# Altium footprint library DXPpcb.PCBLIB: 575 footprints (part 4 of 36)
Each footprint in its own frame and in the unit in brackets; x right, y up, seen from the top. Pads: shape width x height; smd on the part's side, far side on the other; paste and mask are expansions set on the pad; w line width, h text height; cw(c..) or ccw(c..) is an arc to the next point about the centre after c.
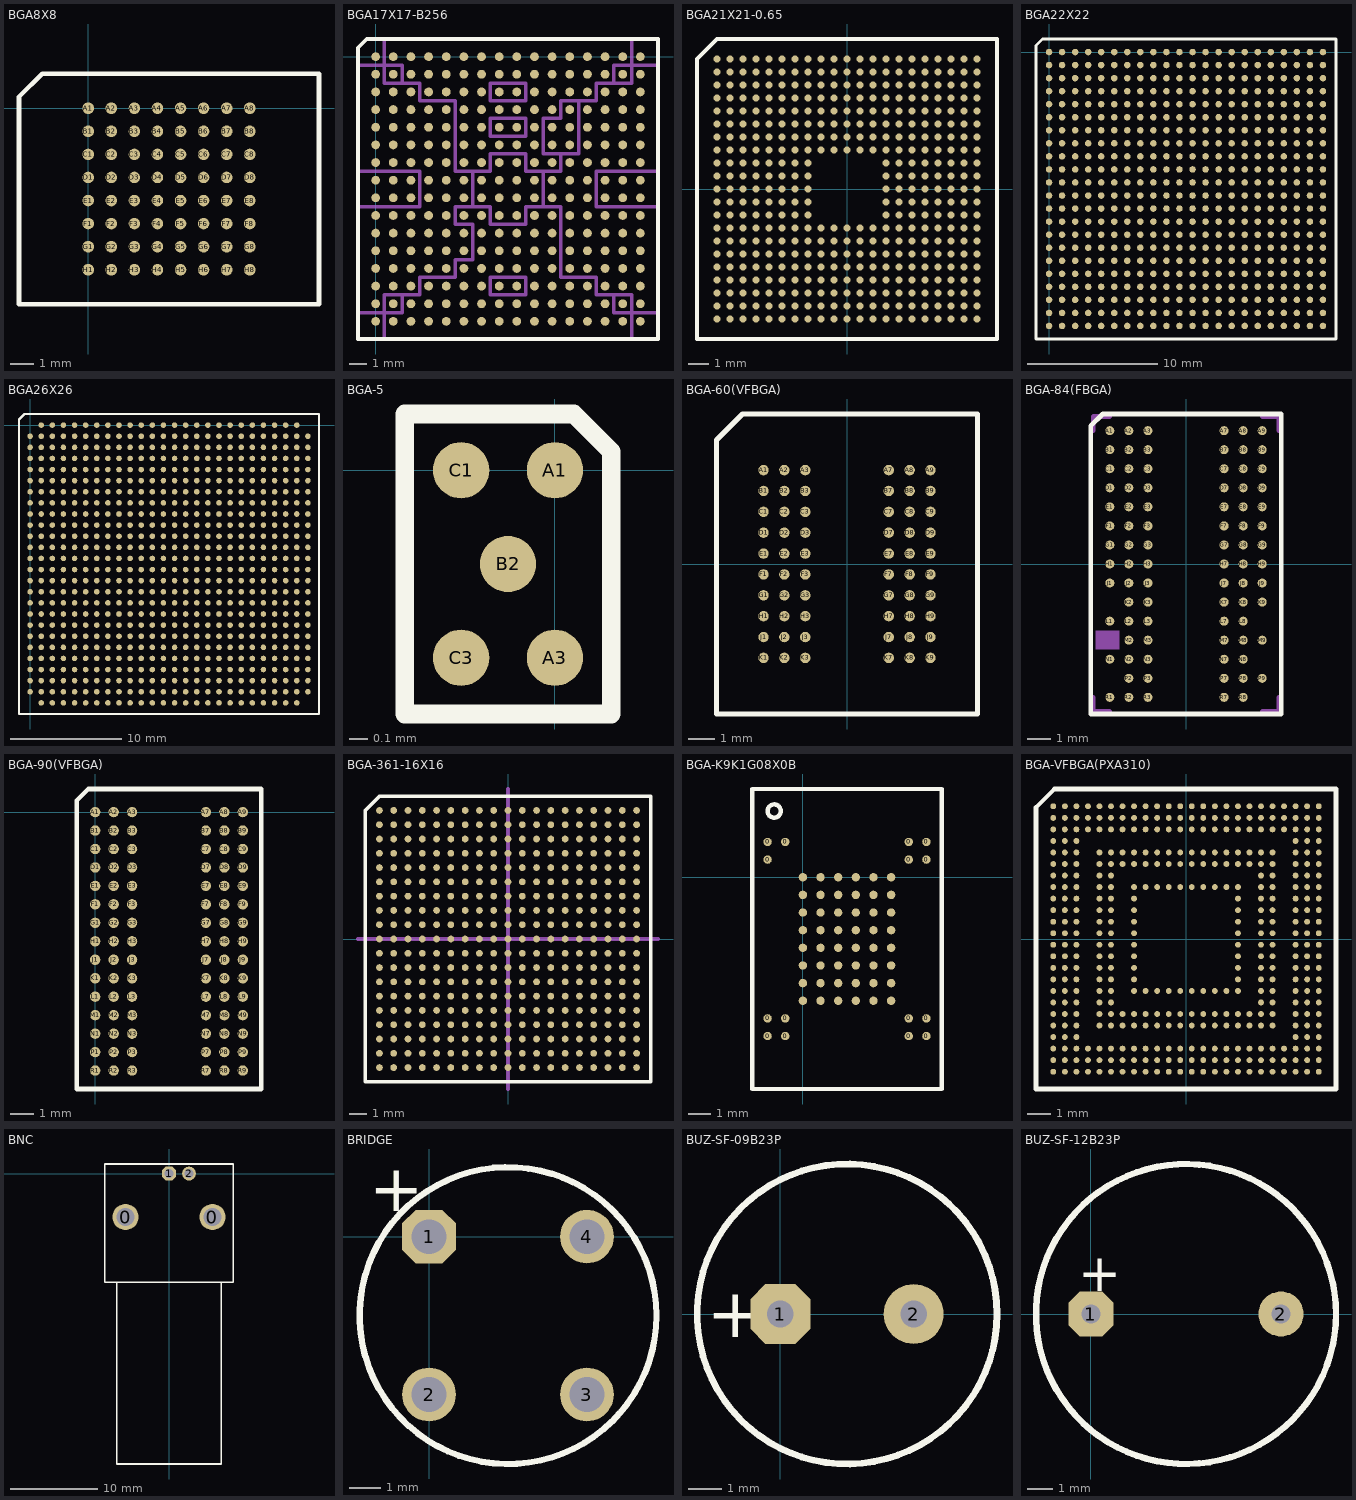
[diagram p3: the footprints below, top view; thin cyan lines are the x and y axes]

## BGA8X8 [mm]
pads (64):
  round 0.5 smd: A1(0,0) A2(1,0) A3(2,0) A4(3,0) A5(4,0) A6(5,0) A7(6,0) A8(7,0) B1(0,-1) B2(1,-1) B3(2,-1) B4(3,-1) B5(4,-1) B6(5,-1) B7(6,-1) B8(7,-1) C1(0,-2) C2(1,-2) C3(2,-2) C4(3,-2) C5(4,-2) C6(5,-2) C7(6,-2) C8(7,-2) D1(0,-3) D2(1,-3) D3(2,-3) D4(3,-3) D5(4,-3) D6(5,-3) D7(6,-3) D8(7,-3) E1(0,-4) E2(1,-4) E3(2,-4) E4(3,-4) E5(4,-4) E6(5,-4) E7(6,-4) E8(7,-4) F1(0,-5) F2(1,-5) F3(2,-5) F4(3,-5) F5(4,-5) F6(5,-5) F7(6,-5) F8(7,-5) G1(0,-6) G2(1,-6) G3(2,-6) G4(3,-6) G5(4,-6) G6(5,-6) G7(6,-6) G8(7,-6) H1(0,-7) H2(1,-7) H3(2,-7) H4(3,-7) H5(4,-7) H6(5,-7) H7(6,-7) H8(7,-7)
TopOverlay:
  lines w0.2: -3,-8.5 10,-8.5 10,1.5 -2,1.5 -3,0.5 -3,-8.5

## BGA17X17-B256 [mm]
pads (256):
  round 0.5 smd: A1(0,0) A2(1,0) A3(2,0) A4(3,0) A5(4,0) A6(5,0) A7(6,0) A8(7,0) A9(8,0) A10(9,0) A11(10,0) A12(11,0) A13(12,0) A14(13,0) A15(14,0) A16(15,0) B1(0,-1) B2(1,-1) B3(2,-1) B4(3,-1) B5(4,-1) B6(5,-1) B7(6,-1) B8(7,-1) B9(8,-1) B10(9,-1) B11(10,-1) B12(11,-1) B13(12,-1) B14(13,-1) B15(14,-1) B16(15,-1) C1(0,-2) C2(1,-2) C3(2,-2) C4(3,-2) C5(4,-2) C6(5,-2) C7(6,-2) C8(7,-2) C9(8,-2) C10(9,-2) C11(10,-2) C12(11,-2) C13(12,-2) C14(13,-2) C15(14,-2) C16(15,-2) D1(0,-3) D2(1,-3) D3(2,-3) D4(3,-3) D5(4,-3) D6(5,-3) D7(6,-3) D8(7,-3) D9(8,-3) D10(9,-3) D11(10,-3) D12(11,-3) D13(12,-3) D14(13,-3) D15(14,-3) D16(15,-3) E1(0,-4) E2(1,-4) E3(2,-4) E4(3,-4) E5(4,-4) E6(5,-4) E7(6,-4) E8(7,-4) E9(8,-4) E10(9,-4) E11(10,-4) E12(11,-4) E13(12,-4) E14(13,-4) E15(14,-4) E16(15,-4) F1(0,-5) F2(1,-5) F3(2,-5) F4(3,-5) F5(4,-5) F6(5,-5) F7(6,-5) F8(7,-5) F9(8,-5) F10(9,-5) F11(10,-5) F12(11,-5) F13(12,-5) F14(13,-5) F15(14,-5) F16(15,-5) G1(0,-6) G2(1,-6) G3(2,-6) G4(3,-6) G5(4,-6) G6(5,-6) G7(6,-6) G8(7,-6) G9(8,-6) G10(9,-6) G11(10,-6) G12(11,-6) G13(12,-6) G14(13,-6) G15(14,-6) G16(15,-6) H1(0,-7) H2(1,-7) H3(2,-7) H4(3,-7) H5(4,-7) H6(5,-7) H7(6,-7) H8(7,-7) H9(8,-7) H10(9,-7) H11(10,-7) H12(11,-7) H13(12,-7) H14(13,-7) H15(14,-7) H16(15,-7) J1(0,-8) J2(1,-8) J3(2,-8) J4(3,-8) J5(4,-8) J6(5,-8) J7(6,-8) J8(7,-8) J9(8,-8) J10(9,-8) J11(10,-8) J12(11,-8) J13(12,-8) J14(13,-8) J15(14,-8) J16(15,-8) K1(0,-9) K2(1,-9) K3(2,-9) K4(3,-9) K5(4,-9) K6(5,-9) K7(6,-9) K8(7,-9) K9(8,-9) K10(9,-9) K11(10,-9) K12(11,-9) K13(12,-9) K14(13,-9) K15(14,-9) K16(15,-9) L1(0,-10) L2(1,-10) L3(2,-10) L4(3,-10) L5(4,-10) L6(5,-10) L7(6,-10) L8(7,-10) L9(8,-10) L10(9,-10) L11(10,-10) L12(11,-10) L13(12,-10) L14(13,-10) L15(14,-10) L16(15,-10) M1(0,-11) M2(1,-11) M3(2,-11) M4(3,-11) M5(4,-11) M6(5,-11) M7(6,-11) M8(7,-11) M9(8,-11) M10(9,-11) M11(10,-11) M12(11,-11) M13(12,-11) M14(13,-11) M15(14,-11) M16(15,-11) N1(0,-12) N2(1,-12) N3(2,-12) N4(3,-12) N5(4,-12) N6(5,-12) N7(6,-12) N8(7,-12) N9(8,-12) N10(9,-12) N11(10,-12) N12(11,-12) N13(12,-12) N14(13,-12) N15(14,-12) N16(15,-12) P1(0,-13) P2(1,-13) P3(2,-13) P4(3,-13) P5(4,-13) P6(5,-13) P7(6,-13) P8(7,-13) P9(8,-13) P10(9,-13) P11(10,-13) P12(11,-13) P13(12,-13) P14(13,-13) P15(14,-13) P16(15,-13) R1(0,-14) R2(1,-14) R3(2,-14) R4(3,-14) R5(4,-14) R6(5,-14) R7(6,-14) R8(7,-14) R9(8,-14) R10(9,-14) R11(10,-14) R12(11,-14) R13(12,-14) R14(13,-14) R15(14,-14) R16(15,-14) T1(0,-15) T2(1,-15) T3(2,-15) T4(3,-15) T5(4,-15) T6(5,-15) T7(6,-15) T8(7,-15) T9(8,-15) T10(9,-15) T11(10,-15) T12(11,-15) T13(12,-15) T14(13,-15) T15(14,-15) T16(15,-15)
TopOverlay:
  lines w0.2: -1,-16 16,-16 16,1 -0.5,1 -1,0.5 -1,-16
Mechanical3:
  lines w0.2: -1,-14.5 0.5,-14.5 ; -1,-0.5 0.5,-0.5 ; 0.5,-16 0.5,-14.5 ; 0.5,1 0.5,-0.5 ; 1.5,-1.5 1.5,-0.5 0.5,-0.5 ; 5.5,-8.5 5.5,-6.5 ; 9.5,-8.5 9.5,-6.5 ; 10.5,-5.5 10.5,-6.5 9.5,-6.5 ; 13.5,-1.5 13.5,-0.5 14.5,-0.5 ; 14.5,-16 14.5,-14.5 ; 14.5,1 14.5,-0.5 ; 16,-14.5 14.5,-14.5 ; 16,-0.5 14.5,-0.5 ; 0.5,-14.5 0.5,-13.5 1.5,-13.5 ; 0.5,-14.5 1.5,-14.5 1.5,-13.5 ; 0.5,-0.5 0.5,-1.5 2.5,-1.5 2.5,-2.5 4.5,-2.5 4.5,-6.5 5.5,-6.5 ; 1.5,-13.5 2.5,-13.5 2.5,-12.5 4.5,-12.5 4.5,-11.5 5.5,-11.5 5.5,-9.5 4.5,-9.5 4.5,-8.5 6.5,-8.5 6.5,-9.5 8.5,-9.5 8.5,-8.5 10.5,-8.5 10.5,-12.5 12.5,-12.5 12.5,-13.5 13.5,-13.5 ; 5.5,-6.5 6.5,-6.5 6.5,-5.5 8.5,-5.5 8.5,-6.5 9.5,-6.5 ; 11.5,-2.5 11.5,-5.5 9.5,-5.5 9.5,-3.5 10.5,-3.5 10.5,-2.5 11.5,-2.5 ; 11.5,-2.5 12.5,-2.5 12.5,-1.5 14.5,-1.5 14.5,-0.5 ; 13.5,-13.5 14.5,-13.5 14.5,-14.5 ; 13.5,-13.5 13.5,-14.5 14.5,-14.5 ; -1,-8.5 -1,-6.5 2.5,-6.5 2.5,-8.5 -1,-8.5 ; 6.5,-13.5 6.5,-12.5 8.5,-12.5 8.5,-13.5 6.5,-13.5 ; 6.5,-4.5 8.5,-4.5 8.5,-3.5 6.5,-3.5 6.5,-4.5 ; 6.5,-2.5 8.5,-2.5 8.5,-1.5 6.5,-1.5 6.5,-2.5 ; 12.5,-8.5 12.5,-6.5 16,-6.5 16,-8.5 12.5,-8.5

## BGA21X21-0.65 [mm]
pads (416):
  round 0.35 smd: A1(-6.5,6.5) A2(-5.85,6.5) A3(-5.2,6.5) A4(-4.55,6.5) A5(-3.9,6.5) A6(-3.25,6.5) A7(-2.6,6.5) A8(-1.95,6.5) A9(-1.3,6.5) A10(-0.65,6.5) A11(0,6.5) A12(0.65,6.5) A13(1.3,6.5) A14(1.95,6.5) A15(2.6,6.5) A16(3.25,6.5) A17(3.9,6.5) A18(4.55,6.5) A19(5.2,6.5) A20(5.85,6.5) A21(6.5,6.5) AA1(-6.5,-6.5) AA2(-5.85,-6.5) AA3(-5.2,-6.5) AA4(-4.55,-6.5) AA5(-3.9,-6.5) AA6(-3.25,-6.5) AA7(-2.6,-6.5) AA8(-1.95,-6.5) AA9(-1.3,-6.5) AA10(-0.65,-6.5) AA11(0,-6.5) AA12(0.65,-6.5) AA13(1.3,-6.5) AA14(1.95,-6.5) AA15(2.6,-6.5) AA16(3.25,-6.5) AA17(3.9,-6.5) AA18(4.55,-6.5) AA19(5.2,-6.5) AA20(5.85,-6.5) AA21(6.5,-6.5) B1(-6.5,5.85) B2(-5.85,5.85) B3(-5.2,5.85) B4(-4.55,5.85) B5(-3.9,5.85) B6(-3.25,5.85) B7(-2.6,5.85) B8(-1.95,5.85) B9(-1.3,5.85) B10(-0.65,5.85) B11(0,5.85) B12(0.65,5.85) B13(1.3,5.85) B14(1.95,5.85) B15(2.6,5.85) B16(3.25,5.85) B17(3.9,5.85) B18(4.55,5.85) B19(5.2,5.85) B20(5.85,5.85) B21(6.5,5.85) C1(-6.5,5.2) C2(-5.85,5.2) C3(-5.2,5.2) C4(-4.55,5.2) C5(-3.9,5.2) C6(-3.25,5.2) C7(-2.6,5.2) C8(-1.95,5.2) C9(-1.3,5.2) C10(-0.65,5.2) C11(0,5.2) C12(0.65,5.2) C13(1.3,5.2) C14(1.95,5.2) C15(2.6,5.2) C16(3.25,5.2) C17(3.9,5.2) C18(4.55,5.2) C19(5.2,5.2) C20(5.85,5.2) C21(6.5,5.2) D1(-6.5,4.55) D2(-5.85,4.55) D3(-5.2,4.55) D4(-4.55,4.55) D5(-3.9,4.55) D6(-3.25,4.55) D7(-2.6,4.55) D8(-1.95,4.55) D9(-1.3,4.55) D10(-0.65,4.55) D11(0,4.55) D12(0.65,4.55) D13(1.3,4.55) D14(1.95,4.55) D15(2.6,4.55) D16(3.25,4.55) D17(3.9,4.55) D18(4.55,4.55) D19(5.2,4.55) D20(5.85,4.55) D21(6.5,4.55) E1(-6.5,3.9) E2(-5.85,3.9) E3(-5.2,3.9) E4(-4.55,3.9) E5(-3.9,3.9) E6(-3.25,3.9) E7(-2.6,3.9) E8(-1.95,3.9) E9(-1.3,3.9) E10(-0.65,3.9) E11(0,3.9) E12(0.65,3.9) E13(1.3,3.9) E14(1.95,3.9) E15(2.6,3.9) E16(3.25,3.9) E17(3.9,3.9) E18(4.55,3.9) E19(5.2,3.9) E20(5.85,3.9) E21(6.5,3.9) F1(-6.5,3.25) F2(-5.85,3.25) F3(-5.2,3.25) F4(-4.55,3.25) F5(-3.9,3.25) F6(-3.25,3.25) F7(-2.6,3.25) F8(-1.95,3.25) F9(-1.3,3.25) F10(-0.65,3.25) F11(0,3.25) F12(0.65,3.25) F13(1.3,3.25) F14(1.95,3.25) F15(2.6,3.25) F16(3.25,3.25) F17(3.9,3.25) F18(4.55,3.25) F19(5.2,3.25) F20(5.85,3.25) F21(6.5,3.25) G1(-6.5,2.6) G2(-5.85,2.6) G3(-5.2,2.6) G4(-4.55,2.6) G5(-3.9,2.6) G6(-3.25,2.6) G7(-2.6,2.6) G8(-1.95,2.6) G9(-1.3,2.6) G10(-0.65,2.6) G11(0,2.6) G12(0.65,2.6) G13(1.3,2.6) G14(1.95,2.6) G15(2.6,2.6) G16(3.25,2.6) G17(3.9,2.6) G18(4.55,2.6) G19(5.2,2.6) G20(5.85,2.6) G21(6.5,2.6) H1(-6.5,1.95) H2(-5.85,1.95) H3(-5.2,1.95) H4(-4.55,1.95) H5(-3.9,1.95) H6(-3.25,1.95) H7(-2.6,1.95) H8(-1.95,1.95) H9(-1.3,1.95) H10(-0.65,1.95) H11(0,1.95) H12(0.65,1.95) H13(1.3,1.95) H14(1.95,1.95) H15(2.6,1.95) H16(3.25,1.95) H17(3.9,1.95) H18(4.55,1.95) H19(5.2,1.95) H20(5.85,1.95) H21(6.5,1.95) J1(-6.5,1.3) J2(-5.85,1.3) J3(-5.2,1.3) J4(-4.55,1.3) J5(-3.9,1.3) J6(-3.25,1.3) J7(-2.6,1.3) J8(-1.95,1.3) J14(1.95,1.3) J15(2.6,1.3) J16(3.25,1.3) J17(3.9,1.3) J18(4.55,1.3) J19(5.2,1.3) J20(5.85,1.3) J21(6.5,1.3) K1(-6.5,0.65) K2(-5.85,0.65) K3(-5.2,0.65) K4(-4.55,0.65) K5(-3.9,0.65) K6(-3.25,0.65) K7(-2.6,0.65) K8(-1.95,0.65) K14(1.95,0.65) K15(2.6,0.65) K16(3.25,0.65) K17(3.9,0.65) K18(4.55,0.65) K19(5.2,0.65) K20(5.85,0.65) K21(6.5,0.65) L1(-6.5,0) L2(-5.85,0) L3(-5.2,0) L4(-4.55,0) L5(-3.9,0) L6(-3.25,0) L7(-2.6,0) L8(-1.95,0) L14(1.95,0) L15(2.6,0) L16(3.25,0) L17(3.9,0) L18(4.55,0) L19(5.2,0) L20(5.85,0) L21(6.5,0) M1(-6.5,-0.65) M2(-5.85,-0.65) M3(-5.2,-0.65) M4(-4.55,-0.65) M5(-3.9,-0.65) M6(-3.25,-0.65) M7(-2.6,-0.65) M8(-1.95,-0.65) M14(1.95,-0.65) M15(2.6,-0.65) M16(3.25,-0.65) M17(3.9,-0.65) M18(4.55,-0.65) M19(5.2,-0.65) M20(5.85,-0.65) M21(6.5,-0.65) N1(-6.5,-1.3) N2(-5.85,-1.3) N3(-5.2,-1.3) N4(-4.55,-1.3) N5(-3.9,-1.3) N6(-3.25,-1.3) N7(-2.6,-1.3) N8(-1.95,-1.3) N14(1.95,-1.3) N15(2.6,-1.3) N16(3.25,-1.3) N17(3.9,-1.3) N18(4.55,-1.3) N19(5.2,-1.3) N20(5.85,-1.3) N21(6.5,-1.3) P1(-6.5,-1.95) P2(-5.85,-1.95) P3(-5.2,-1.95) P4(-4.55,-1.95) P5(-3.9,-1.95) P6(-3.25,-1.95) P7(-2.6,-1.95) P8(-1.95,-1.95) P9(-1.3,-1.95) P10(-0.65,-1.95) P11(0,-1.95) P12(0.65,-1.95) P13(1.3,-1.95) P14(1.95,-1.95) P15(2.6,-1.95) P16(3.25,-1.95) P17(3.9,-1.95) P18(4.55,-1.95) P19(5.2,-1.95) P20(5.85,-1.95) P21(6.5,-1.95) R1(-6.5,-2.6) R2(-5.85,-2.6) R3(-5.2,-2.6) R4(-4.55,-2.6) R5(-3.9,-2.6) R6(-3.25,-2.6) R7(-2.6,-2.6) R8(-1.95,-2.6) R9(-1.3,-2.6) R10(-0.65,-2.6) R11(0,-2.6) R12(0.65,-2.6) R13(1.3,-2.6) R14(1.95,-2.6) R15(2.6,-2.6) R16(3.25,-2.6) R17(3.9,-2.6) R18(4.55,-2.6) R19(5.2,-2.6) R20(5.85,-2.6) R21(6.5,-2.6) T1(-6.5,-3.25) T2(-5.85,-3.25) T3(-5.2,-3.25) T4(-4.55,-3.25) T5(-3.9,-3.25) T6(-3.25,-3.25) T7(-2.6,-3.25) T8(-1.95,-3.25) T9(-1.3,-3.25) T10(-0.65,-3.25) T11(0,-3.25) T12(0.65,-3.25) T13(1.3,-3.25) T14(1.95,-3.25) T15(2.6,-3.25) T16(3.25,-3.25) T17(3.9,-3.25) T18(4.55,-3.25) T19(5.2,-3.25) T20(5.85,-3.25) T21(6.5,-3.25) U1(-6.5,-3.9) U2(-5.85,-3.9) U3(-5.2,-3.9) U4(-4.55,-3.9) U5(-3.9,-3.9) U6(-3.25,-3.9) U7(-2.6,-3.9) U8(-1.95,-3.9) U9(-1.3,-3.9) U10(-0.65,-3.9) U11(0,-3.9) U12(0.65,-3.9) U13(1.3,-3.9) U14(1.95,-3.9) U15(2.6,-3.9) U16(3.25,-3.9) U17(3.9,-3.9) U18(4.55,-3.9) U19(5.2,-3.9) U20(5.85,-3.9) U21(6.5,-3.9) V1(-6.5,-4.55) V2(-5.85,-4.55) V3(-5.2,-4.55) V4(-4.55,-4.55) V5(-3.9,-4.55) V6(-3.25,-4.55) V7(-2.6,-4.55) V8(-1.95,-4.55) V9(-1.3,-4.55) V10(-0.65,-4.55) V11(0,-4.55) V12(0.65,-4.55) V13(1.3,-4.55) V14(1.95,-4.55) V15(2.6,-4.55) V16(3.25,-4.55) V17(3.9,-4.55) V18(4.55,-4.55) V19(5.2,-4.55) V20(5.85,-4.55) V21(6.5,-4.55) W1(-6.5,-5.2) W2(-5.85,-5.2) W3(-5.2,-5.2) W4(-4.55,-5.2) W5(-3.9,-5.2) W6(-3.25,-5.2) W7(-2.6,-5.2) W8(-1.95,-5.2) W9(-1.3,-5.2) W10(-0.65,-5.2) W11(0,-5.2) W12(0.65,-5.2) W13(1.3,-5.2) W14(1.95,-5.2) W15(2.6,-5.2) W16(3.25,-5.2) W17(3.9,-5.2) W18(4.55,-5.2) W19(5.2,-5.2) W20(5.85,-5.2) W21(6.5,-5.2) Y1(-6.5,-5.85) Y2(-5.85,-5.85) Y3(-5.2,-5.85) Y4(-4.55,-5.85) Y5(-3.9,-5.85) Y6(-3.25,-5.85) Y7(-2.6,-5.85) Y8(-1.95,-5.85) Y9(-1.3,-5.85) Y10(-0.65,-5.85) Y11(0,-5.85) Y12(0.65,-5.85) Y13(1.3,-5.85) Y14(1.95,-5.85) Y15(2.6,-5.85) Y16(3.25,-5.85) Y17(3.9,-5.85) Y18(4.55,-5.85) Y19(5.2,-5.85) Y20(5.85,-5.85) Y21(6.5,-5.85)
TopOverlay:
  lines w0.2: -7.5,-7.5 7.5,-7.5 7.5,7.5 -6.5,7.5 -7.5,6.5 -7.5,-7.5

## BGA22X22 [mm]
pads (484):
  round 0.5 smd: A1(0,0) A2(1,0) A3(2,0) A4(3,0) A5(4,0) A6(5,0) A7(6,0) A8(7,0) A9(8,0) A10(9,0) A11(10,0) A12(11,0) A13(12,0) A14(13,0) A15(14,0) A16(15,0) A17(16,0) A18(17,0) A19(18,0) A20(19,0) A21(20,0) A22(21,0) AA1(0,-20) AA2(1,-20) AA3(2,-20) AA4(3,-20) AA5(4,-20) AA6(5,-20) AA7(6,-20) AA8(7,-20) AA9(8,-20) AA10(9,-20) AA11(10,-20) AA12(11,-20) AA13(12,-20) AA14(13,-20) AA15(14,-20) AA16(15,-20) AA17(16,-20) AA18(17,-20) AA19(18,-20) AA20(19,-20) AA21(20,-20) AA22(21,-20) AB1(0,-21) AB2(1,-21) AB3(2,-21) AB4(3,-21) AB5(4,-21) AB6(5,-21) AB7(6,-21) AB8(7,-21) AB9(8,-21) AB10(9,-21) AB11(10,-21) AB12(11,-21) AB13(12,-21) AB14(13,-21) AB15(14,-21) AB16(15,-21) AB17(16,-21) AB18(17,-21) AB19(18,-21) AB20(19,-21) AB21(20,-21) AB22(21,-21) B1(0,-1) B2(1,-1) B3(2,-1) B4(3,-1) B5(4,-1) B6(5,-1) B7(6,-1) B8(7,-1) B9(8,-1) B10(9,-1) B11(10,-1) B12(11,-1) B13(12,-1) B14(13,-1) B15(14,-1) B16(15,-1) B17(16,-1) B18(17,-1) B19(18,-1) B20(19,-1) B21(20,-1) B22(21,-1) C1(0,-2) C2(1,-2) C3(2,-2) C4(3,-2) C5(4,-2) C6(5,-2) C7(6,-2) C8(7,-2) C9(8,-2) C10(9,-2) C11(10,-2) C12(11,-2) C13(12,-2) C14(13,-2) C15(14,-2) C16(15,-2) C17(16,-2) C18(17,-2) C19(18,-2) C20(19,-2) C21(20,-2) C22(21,-2) D1(0,-3) D2(1,-3) D3(2,-3) D4(3,-3) D5(4,-3) D6(5,-3) D7(6,-3) D8(7,-3) D9(8,-3) D10(9,-3) D11(10,-3) D12(11,-3) D13(12,-3) D14(13,-3) D15(14,-3) D16(15,-3) D17(16,-3) D18(17,-3) D19(18,-3) D20(19,-3) D21(20,-3) D22(21,-3) E1(0,-4) E2(1,-4) E3(2,-4) E4(3,-4) E5(4,-4) E6(5,-4) E7(6,-4) E8(7,-4) E9(8,-4) E10(9,-4) E11(10,-4) E12(11,-4) E13(12,-4) E14(13,-4) E15(14,-4) E16(15,-4) E17(16,-4) E18(17,-4) E19(18,-4) E20(19,-4) E21(20,-4) E22(21,-4) F1(0,-5) F2(1,-5) F3(2,-5) F4(3,-5) F5(4,-5) F6(5,-5) F7(6,-5) F8(7,-5) F9(8,-5) F10(9,-5) F11(10,-5) F12(11,-5) F13(12,-5) F14(13,-5) F15(14,-5) F16(15,-5) F17(16,-5) F18(17,-5) F19(18,-5) F20(19,-5) F21(20,-5) F22(21,-5) G1(0,-6) G2(1,-6) G3(2,-6) G4(3,-6) G5(4,-6) G6(5,-6) G7(6,-6) G8(7,-6) G9(8,-6) G10(9,-6) G11(10,-6) G12(11,-6) G13(12,-6) G14(13,-6) G15(14,-6) G16(15,-6) G17(16,-6) G18(17,-6) G19(18,-6) G20(19,-6) G21(20,-6) G22(21,-6) H1(0,-7) H2(1,-7) H3(2,-7) H4(3,-7) H5(4,-7) H6(5,-7) H7(6,-7) H8(7,-7) H9(8,-7) H10(9,-7) H11(10,-7) H12(11,-7) H13(12,-7) H14(13,-7) H15(14,-7) H16(15,-7) H17(16,-7) H18(17,-7) H19(18,-7) H20(19,-7) H21(20,-7) H22(21,-7) J1(0,-8) J2(1,-8) J3(2,-8) J4(3,-8) J5(4,-8) J6(5,-8) J7(6,-8) J8(7,-8) J9(8,-8) J10(9,-8) J11(10,-8) J12(11,-8) J13(12,-8) J14(13,-8) J15(14,-8) J16(15,-8) J17(16,-8) J18(17,-8) J19(18,-8) J20(19,-8) J21(20,-8) J22(21,-8) K1(0,-9) K2(1,-9) K3(2,-9) K4(3,-9) K5(4,-9) K6(5,-9) K7(6,-9) K8(7,-9) K9(8,-9) K10(9,-9) K11(10,-9) K12(11,-9) K13(12,-9) K14(13,-9) K15(14,-9) K16(15,-9) K17(16,-9) K18(17,-9) K19(18,-9) K20(19,-9) K21(20,-9) K22(21,-9) L1(0,-10) L2(1,-10) L3(2,-10) L4(3,-10) L5(4,-10) L6(5,-10) L7(6,-10) L8(7,-10) L9(8,-10) L10(9,-10) L11(10,-10) L12(11,-10) L13(12,-10) L14(13,-10) L15(14,-10) L16(15,-10) L17(16,-10) L18(17,-10) L19(18,-10) L20(19,-10) L21(20,-10) L22(21,-10) M1(0,-11) M2(1,-11) M3(2,-11) M4(3,-11) M5(4,-11) M6(5,-11) M7(6,-11) M8(7,-11) M9(8,-11) M10(9,-11) M11(10,-11) M12(11,-11) M13(12,-11) M14(13,-11) M15(14,-11) M16(15,-11) M17(16,-11) M18(17,-11) M19(18,-11) M20(19,-11) M21(20,-11) M22(21,-11) N1(0,-12) N2(1,-12) N3(2,-12) N4(3,-12) N5(4,-12) N6(5,-12) N7(6,-12) N8(7,-12) N9(8,-12) N10(9,-12) N11(10,-12) N12(11,-12) N13(12,-12) N14(13,-12) N15(14,-12) N16(15,-12) N17(16,-12) N18(17,-12) N19(18,-12) N20(19,-12) N21(20,-12) N22(21,-12) P1(0,-13) P2(1,-13) P3(2,-13) P4(3,-13) P5(4,-13) P6(5,-13) P7(6,-13) P8(7,-13) P9(8,-13) P10(9,-13) P11(10,-13) P12(11,-13) P13(12,-13) P14(13,-13) P15(14,-13) P16(15,-13) P17(16,-13) P18(17,-13) P19(18,-13) P20(19,-13) P21(20,-13) P22(21,-13) R1(0,-14) R2(1,-14) R3(2,-14) R4(3,-14) R5(4,-14) R6(5,-14) R7(6,-14) R8(7,-14) R9(8,-14) R10(9,-14) R11(10,-14) R12(11,-14) R13(12,-14) R14(13,-14) R15(14,-14) R16(15,-14) R17(16,-14) R18(17,-14) R19(18,-14) R20(19,-14) R21(20,-14) R22(21,-14) T1(0,-15) T2(1,-15) T3(2,-15) T4(3,-15) T5(4,-15) T6(5,-15) T7(6,-15) T8(7,-15) T9(8,-15) T10(9,-15) T11(10,-15) T12(11,-15) T13(12,-15) T14(13,-15) T15(14,-15) T16(15,-15) T17(16,-15) T18(17,-15) T19(18,-15) T20(19,-15) T21(20,-15) T22(21,-15) U1(0,-16) U2(1,-16) U3(2,-16) U4(3,-16) U5(4,-16) U6(5,-16) U7(6,-16) U8(7,-16) U9(8,-16) U10(9,-16) U11(10,-16) U12(11,-16) U13(12,-16) U14(13,-16) U15(14,-16) U16(15,-16) U17(16,-16) U18(17,-16) U19(18,-16) U20(19,-16) U21(20,-16) U22(21,-16) V1(0,-17) V2(1,-17) V3(2,-17) V4(3,-17) V5(4,-17) V6(5,-17) V7(6,-17) V8(7,-17) V9(8,-17) V10(9,-17) V11(10,-17) V12(11,-17) V13(12,-17) V14(13,-17) V15(14,-17) V16(15,-17) V17(16,-17) V18(17,-17) V19(18,-17) V20(19,-17) V21(20,-17) V22(21,-17) W1(0,-18) W2(1,-18) W3(2,-18) W4(3,-18) W5(4,-18) W6(5,-18) W7(6,-18) W8(7,-18) W9(8,-18) W10(9,-18) W11(10,-18) W12(11,-18) W13(12,-18) W14(13,-18) W15(14,-18) W16(15,-18) W17(16,-18) W18(17,-18) W19(18,-18) W20(19,-18) W21(20,-18) W22(21,-18) Y1(0,-19) Y2(1,-19) Y3(2,-19) Y4(3,-19) Y5(4,-19) Y6(5,-19) Y7(6,-19) Y8(7,-19) Y9(8,-19) Y10(9,-19) Y11(10,-19) Y12(11,-19) Y13(12,-19) Y14(13,-19) Y15(14,-19) Y16(15,-19) Y17(16,-19) Y18(17,-19) Y19(18,-19) Y20(19,-19) Y21(20,-19) Y22(21,-19)
TopOverlay:
  lines w0.2: -1,-22 22,-22 22,1 -0.5,1 -1,0.5 -1,-22

## BGA26X26 [mm]
pads (672):
  round 0.5 smd: A2(1,0) A3(2,0) A4(3,0) A5(4,0) A6(5,0) A7(6,0) A8(7,0) A9(8,0) A10(9,0) A11(10,0) A12(11,0) A13(12,0) A14(13,0) A15(14,0) A16(15,0) A17(16,0) A18(17,0) A19(18,0) A20(19,0) A21(20,0) A22(21,0) A23(22,0) A24(23,0) A25(24,0) AA1(0,-20) AA2(1,-20) AA3(2,-20) AA4(3,-20) AA5(4,-20) AA6(5,-20) AA7(6,-20) AA8(7,-20) AA9(8,-20) AA10(9,-20) AA11(10,-20) AA12(11,-20) AA13(12,-20) AA14(13,-20) AA15(14,-20) AA16(15,-20) AA17(16,-20) AA18(17,-20) AA19(18,-20) AA20(19,-20) AA21(20,-20) AA22(21,-20) AA23(22,-20) AA24(23,-20) AA25(24,-20) AA26(25,-20) AB1(0,-21) AB2(1,-21) AB3(2,-21) AB4(3,-21) AB5(4,-21) AB6(5,-21) AB7(6,-21) AB8(7,-21) AB9(8,-21) AB10(9,-21) AB11(10,-21) AB12(11,-21) AB13(12,-21) AB14(13,-21) AB15(14,-21) AB16(15,-21) AB17(16,-21) AB18(17,-21) AB19(18,-21) AB20(19,-21) AB21(20,-21) AB22(21,-21) AB23(22,-21) AB24(23,-21) AB25(24,-21) AB26(25,-21) AC1(0,-22) AC2(1,-22) AC3(2,-22) AC4(3,-22) AC5(4,-22) AC6(5,-22) AC7(6,-22) AC8(7,-22) AC9(8,-22) AC10(9,-22) AC11(10,-22) AC12(11,-22) AC13(12,-22) AC14(13,-22) AC15(14,-22) AC16(15,-22) AC17(16,-22) AC18(17,-22) AC19(18,-22) AC20(19,-22) AC21(20,-22) AC22(21,-22) AC23(22,-22) AC24(23,-22) AC25(24,-22) AC26(25,-22) AD1(0,-23) AD2(1,-23) AD3(2,-23) AD4(3,-23) AD5(4,-23) AD6(5,-23) AD7(6,-23) AD8(7,-23) AD9(8,-23) AD10(9,-23) AD11(10,-23) AD12(11,-23) AD13(12,-23) AD14(13,-23) AD15(14,-23) AD16(15,-23) AD17(16,-23) AD18(17,-23) AD19(18,-23) AD20(19,-23) AD21(20,-23) AD22(21,-23) AD23(22,-23) AD24(23,-23) AD25(24,-23) AD26(25,-23) AE1(0,-24) AE2(1,-24) AE3(2,-24) AE4(3,-24) AE5(4,-24) AE6(5,-24) AE7(6,-24) AE8(7,-24) AE9(8,-24) AE10(9,-24) AE11(10,-24) AE12(11,-24) AE13(12,-24) AE14(13,-24) AE15(14,-24) AE16(15,-24) AE17(16,-24) AE18(17,-24) AE19(18,-24) AE20(19,-24) AE21(20,-24) AE22(21,-24) AE23(22,-24) AE24(23,-24) AE25(24,-24) AE26(25,-24) AF2(1,-25) AF3(2,-25) AF4(3,-25) AF5(4,-25) AF6(5,-25) AF7(6,-25) AF8(7,-25) AF9(8,-25) AF10(9,-25) AF11(10,-25) AF12(11,-25) AF13(12,-25) AF14(13,-25) AF15(14,-25) AF16(15,-25) AF17(16,-25) AF18(17,-25) AF19(18,-25) AF20(19,-25) AF21(20,-25) AF22(21,-25) AF23(22,-25) AF24(23,-25) AF25(24,-25) B1(0,-1) B2(1,-1) B3(2,-1) B4(3,-1) B5(4,-1) B6(5,-1) B7(6,-1) B8(7,-1) B9(8,-1) B10(9,-1) B11(10,-1) B12(11,-1) B13(12,-1) B14(13,-1) B15(14,-1) B16(15,-1) B17(16,-1) B18(17,-1) B19(18,-1) B20(19,-1) B21(20,-1) B22(21,-1) B23(22,-1) B24(23,-1) B25(24,-1) B26(25,-1) C1(0,-2) C2(1,-2) C3(2,-2) C4(3,-2) C5(4,-2) C6(5,-2) C7(6,-2) C8(7,-2) C9(8,-2) C10(9,-2) C11(10,-2) C12(11,-2) C13(12,-2) C14(13,-2) C15(14,-2) C16(15,-2) C17(16,-2) C18(17,-2) C19(18,-2) C20(19,-2) C21(20,-2) C22(21,-2) C23(22,-2) C24(23,-2) C25(24,-2) C26(25,-2) D1(0,-3) D2(1,-3) D3(2,-3) D4(3,-3) D5(4,-3) D6(5,-3) D7(6,-3) D8(7,-3) D9(8,-3) D10(9,-3) D11(10,-3) D12(11,-3) D13(12,-3) D14(13,-3) D15(14,-3) D16(15,-3) D17(16,-3) D18(17,-3) D19(18,-3) D20(19,-3) D21(20,-3) D22(21,-3) D23(22,-3) D24(23,-3) D25(24,-3) D26(25,-3) E1(0,-4) E2(1,-4) E3(2,-4) E4(3,-4) E5(4,-4) E6(5,-4) E7(6,-4) E8(7,-4) E9(8,-4) E10(9,-4) E11(10,-4) E12(11,-4) E13(12,-4) E14(13,-4) E15(14,-4) E16(15,-4) E17(16,-4) E18(17,-4) E19(18,-4) E20(19,-4) E21(20,-4) E22(21,-4) E23(22,-4) E24(23,-4) E25(24,-4) E26(25,-4) F1(0,-5) F2(1,-5) F3(2,-5) F4(3,-5) F5(4,-5) F6(5,-5) F7(6,-5) F8(7,-5) F9(8,-5) F10(9,-5) F11(10,-5) F12(11,-5) F13(12,-5) F14(13,-5) F15(14,-5) F16(15,-5) F17(16,-5) F18(17,-5) F19(18,-5) F20(19,-5) F21(20,-5) F22(21,-5) F23(22,-5) F24(23,-5) F25(24,-5) F26(25,-5) G1(0,-6) G2(1,-6) G3(2,-6) G4(3,-6) G5(4,-6) G6(5,-6) G7(6,-6) G8(7,-6) G9(8,-6) G10(9,-6) G11(10,-6) G12(11,-6) G13(12,-6) G14(13,-6) G15(14,-6) G16(15,-6) G17(16,-6) G18(17,-6) G19(18,-6) G20(19,-6) G21(20,-6) G22(21,-6) G23(22,-6) G24(23,-6) G25(24,-6) G26(25,-6) H1(0,-7) H2(1,-7) H3(2,-7) H4(3,-7) H5(4,-7) H6(5,-7) H7(6,-7) H8(7,-7) H9(8,-7) H10(9,-7) H11(10,-7) H12(11,-7) H13(12,-7) H14(13,-7) H15(14,-7) H16(15,-7) H17(16,-7) H18(17,-7) H19(18,-7) H20(19,-7) H21(20,-7) H22(21,-7) H23(22,-7) H24(23,-7) H25(24,-7) H26(25,-7) J1(0,-8) J2(1,-8) J3(2,-8) J4(3,-8) J5(4,-8) J6(5,-8) J7(6,-8) J8(7,-8) J9(8,-8) J10(9,-8) J11(10,-8) J12(11,-8) J13(12,-8) J14(13,-8) J15(14,-8) J16(15,-8) J17(16,-8) J18(17,-8) J19(18,-8) J20(19,-8) J21(20,-8) J22(21,-8) J23(22,-8) J24(23,-8) J25(24,-8) J26(25,-8) K1(0,-9) K2(1,-9) K3(2,-9) K4(3,-9) K5(4,-9) K6(5,-9) K7(6,-9) K8(7,-9) K9(8,-9) K10(9,-9) K11(10,-9) K12(11,-9) K13(12,-9) K14(13,-9) K15(14,-9) K16(15,-9) K17(16,-9) K18(17,-9) K19(18,-9) K20(19,-9) K21(20,-9) K22(21,-9) K23(22,-9) K24(23,-9) K25(24,-9) K26(25,-9) L1(0,-10) L2(1,-10) L3(2,-10) L4(3,-10) L5(4,-10) L6(5,-10) L7(6,-10) L8(7,-10) L9(8,-10) L10(9,-10) L11(10,-10) L12(11,-10) L13(12,-10) L14(13,-10) L15(14,-10) L16(15,-10) L17(16,-10) L18(17,-10) L19(18,-10) L20(19,-10) L21(20,-10) L22(21,-10) L23(22,-10) L24(23,-10) L25(24,-10) L26(25,-10) M1(0,-11) M2(1,-11) M3(2,-11) M4(3,-11) M5(4,-11) M6(5,-11) M7(6,-11) M8(7,-11) M9(8,-11) M10(9,-11) M11(10,-11) M12(11,-11) M13(12,-11) M14(13,-11) M15(14,-11) M16(15,-11) M17(16,-11) M18(17,-11) M19(18,-11) M20(19,-11) M21(20,-11) M22(21,-11) M23(22,-11) M24(23,-11) M25(24,-11) M26(25,-11) N1(0,-12) N2(1,-12) N3(2,-12) N4(3,-12) N5(4,-12) N6(5,-12) N7(6,-12) N8(7,-12) N9(8,-12) N10(9,-12) N11(10,-12) N12(11,-12) N13(12,-12) N14(13,-12) N15(14,-12) N16(15,-12) N17(16,-12) N18(17,-12) N19(18,-12) N20(19,-12) N21(20,-12) N22(21,-12) N23(22,-12) N24(23,-12) N25(24,-12) N26(25,-12) P1(0,-13) P2(1,-13) P3(2,-13) P4(3,-13) P5(4,-13) P6(5,-13) P7(6,-13) P8(7,-13) P9(8,-13) P10(9,-13) P11(10,-13) P12(11,-13) P13(12,-13) P14(13,-13) P15(14,-13) P16(15,-13) P17(16,-13) P18(17,-13) P19(18,-13) P20(19,-13) P21(20,-13) P22(21,-13) P23(22,-13) P24(23,-13) P25(24,-13) P26(25,-13) R1(0,-14) R2(1,-14) R3(2,-14) R4(3,-14) R5(4,-14) R6(5,-14) R7(6,-14) R8(7,-14) R9(8,-14) R10(9,-14) R11(10,-14) R12(11,-14) R13(12,-14) R14(13,-14) R15(14,-14) R16(15,-14) R17(16,-14) R18(17,-14) R19(18,-14) R20(19,-14) R21(20,-14) R22(21,-14) R23(22,-14) R24(23,-14) R25(24,-14) R26(25,-14) T1(0,-15) T2(1,-15) T3(2,-15) T4(3,-15) T5(4,-15) T6(5,-15) T7(6,-15) T8(7,-15) T9(8,-15) T10(9,-15) T11(10,-15) T12(11,-15) T13(12,-15) T14(13,-15) T15(14,-15) T16(15,-15) T17(16,-15) T18(17,-15) T19(18,-15) T20(19,-15) T21(20,-15) T22(21,-15) T23(22,-15) T24(23,-15) T25(24,-15) T26(25,-15) U1(0,-16) U2(1,-16) U3(2,-16) U4(3,-16) U5(4,-16) U6(5,-16) U7(6,-16) U8(7,-16) U9(8,-16) U10(9,-16) U11(10,-16) U12(11,-16) U13(12,-16) U14(13,-16) U15(14,-16) U16(15,-16) U17(16,-16) U18(17,-16) U19(18,-16) U20(19,-16) U21(20,-16) U22(21,-16) U23(22,-16) U24(23,-16) U25(24,-16) U26(25,-16) V1(0,-17) V2(1,-17) V3(2,-17) V4(3,-17) V5(4,-17) V6(5,-17) V7(6,-17) V8(7,-17) V9(8,-17) V10(9,-17) V11(10,-17) V12(11,-17) V13(12,-17) V14(13,-17) V15(14,-17) V16(15,-17) V17(16,-17) V18(17,-17) V19(18,-17) V20(19,-17) V21(20,-17) V22(21,-17) V23(22,-17) V24(23,-17) V25(24,-17) V26(25,-17) W1(0,-18) W2(1,-18) W3(2,-18) W4(3,-18) W5(4,-18) W6(5,-18) W7(6,-18) W8(7,-18) W9(8,-18) W10(9,-18) W11(10,-18) W12(11,-18) W13(12,-18) W14(13,-18) W15(14,-18) W16(15,-18) W17(16,-18) W18(17,-18) W19(18,-18) W20(19,-18) W21(20,-18) W22(21,-18) W23(22,-18) W24(23,-18) W25(24,-18) W26(25,-18) Y1(0,-19) Y2(1,-19) Y3(2,-19) Y4(3,-19) Y5(4,-19) Y6(5,-19) Y7(6,-19) Y8(7,-19) Y9(8,-19) Y10(9,-19) Y11(10,-19) Y12(11,-19) Y13(12,-19) Y14(13,-19) Y15(14,-19) Y16(15,-19) Y17(16,-19) Y18(17,-19) Y19(18,-19) Y20(19,-19) Y21(20,-19) Y22(21,-19) Y23(22,-19) Y24(23,-19) Y25(24,-19) Y26(25,-19)
TopOverlay:
  lines w0.2: -1,-26 26,-26 26,1 -0.5,1 -1,0.5 -1,-26

## BGA-5 [mm]
pads (5):
  round 0.3 smd: A1(0,0) A3(0,-1) B2(-0.25,-0.5) C1(-0.5,0) C3(-0.5,-1)
TopOverlay:
  lines w0.1: -0.8,-1.3 -0.8,0.3 0.1,0.3 0.3,0.1 0.3,-1.3 -0.8,-1.3

## BGA-60(VFBGA) [mm]
pads (60):
  round 0.4 smd: A1(-3.2,3.6) A2(-2.4,3.6) A3(-1.6,3.6) A7(1.6,3.6) A8(2.4,3.6) A9(3.2,3.6) B1(-3.2,2.8) B2(-2.4,2.8) B3(-1.6,2.8) B7(1.6,2.8) B8(2.4,2.8) B9(3.2,2.8) C1(-3.2,2) C2(-2.4,2) C3(-1.6,2) C7(1.6,2) C8(2.4,2) C9(3.2,2) D1(-3.2,1.2) D2(-2.4,1.2) D3(-1.6,1.2) D7(1.6,1.2) D8(2.4,1.2) D9(3.2,1.2) E1(-3.2,0.4) E2(-2.4,0.4) E3(-1.6,0.4) E7(1.6,0.4) E8(2.4,0.4) E9(3.2,0.4) F1(-3.2,-0.4) F2(-2.4,-0.4) F3(-1.6,-0.4) F7(1.6,-0.4) F8(2.4,-0.4) F9(3.2,-0.4) G1(-3.2,-1.2) G2(-2.4,-1.2) G3(-1.6,-1.2) G7(1.6,-1.2) G8(2.4,-1.2) G9(3.2,-1.2) H1(-3.2,-2) H2(-2.4,-2) H3(-1.6,-2) H7(1.6,-2) H8(2.4,-2) H9(3.2,-2) J1(-3.2,-2.8) J2(-2.4,-2.8) J3(-1.6,-2.8) J7(1.6,-2.8) J8(2.4,-2.8) J9(3.2,-2.8) K1(-3.2,-3.6) K2(-2.4,-3.6) K3(-1.6,-3.6) K7(1.6,-3.6) K8(2.4,-3.6) K9(3.2,-3.6)
TopOverlay:
  lines w0.2: -5,-5.75 5,-5.75 5,5.75 -4,5.75 -5,4.75 -5,-5.75

## BGA-84(FBGA) [mm]
pads (84):
  round 0.38 smd: A1(-3.2,5.6) A2(-2.4,5.6) A3(-1.6,5.6) A7(1.6,5.6) A8(2.4,5.6) A9(3.2,5.6) B1(-3.2,4.8) B2(-2.4,4.8) B3(-1.6,4.8) B7(1.6,4.8) B8(2.4,4.8) B9(3.2,4.8) C1(-3.2,4) C2(-2.4,4) C3(-1.6,4) C7(1.6,4) C8(2.4,4) C9(3.2,4) D1(-3.2,3.2) D2(-2.4,3.2) D3(-1.6,3.2) D7(1.6,3.2) D8(2.4,3.2) D9(3.2,3.2) E1(-3.2,2.4) E2(-2.4,2.4) E3(-1.6,2.4) E7(1.6,2.4) E8(2.4,2.4) E9(3.2,2.4) F1(-3.2,1.6) F2(-2.4,1.6) F3(-1.6,1.6) F7(1.6,1.6) F8(2.4,1.6) F9(3.2,1.6) G1(-3.2,0.8) G2(-2.4,0.8) G3(-1.6,0.8) G7(1.6,0.8) G8(2.4,0.8) G9(3.2,0.8) H1(-3.2,0) H2(-2.4,0) H3(-1.6,0) H7(1.6,0) H8(2.4,0) H9(3.2,0) J1(-3.2,-0.8) J2(-2.4,-0.8) J3(-1.6,-0.8) J7(1.6,-0.8) J8(2.4,-0.8) J9(3.2,-0.8) K2(-2.4,-1.6) K3(-1.6,-1.6) K7(1.6,-1.6) K8(2.4,-1.6) K9(3.2,-1.6) L1(-3.2,-2.4) L2(-2.4,-2.4) L3(-1.6,-2.4) L7(1.6,-2.4) L8(2.4,-2.4) M2(-2.4,-3.2) M3(-1.6,-3.2) M7(1.6,-3.2) M8(2.4,-3.2) M9(3.2,-3.2) N1(-3.2,-4) N2(-2.4,-4) N3(-1.6,-4) N7(1.6,-4) N8(2.4,-4) P2(-2.4,-4.8) P3(-1.6,-4.8) P7(1.6,-4.8) P8(2.4,-4.8) P9(3.2,-4.8) R1(-3.2,-5.6) R2(-2.4,-5.6) R3(-1.6,-5.6) R7(1.6,-5.6) R8(2.4,-5.6)
TopOverlay:
  lines w0.2: -4,-6.3 -4,5.8 -3.5,6.3 4,6.3 4,-6.3 -4,-6.3
Mechanical3:
  rectangle: -3.8,-3.6 -2.8,-2.8
  lines w0.2: -3.9,-5.6 -3.9,-6.2 -3.2,-6.2 ; -3.9,5.6 -3.9,6.2 -3.2,6.2 ; 3.2,-6.2 3.9,-6.2 3.9,-5.6 ; 3.2,6.2 3.9,6.2 3.9,5.6

## BGA-90(VFBGA) [mm]
pads (90):
  round 0.45 smd: A1(0,0) A2(0.8,0) A3(1.6,0) A7(4.8,0) A8(5.6,0) A9(6.4,0) B1(0,-0.8) B2(0.8,-0.8) B3(1.6,-0.8) B7(4.8,-0.8) B8(5.6,-0.8) B9(6.4,-0.8) C1(0,-1.6) C2(0.8,-1.6) C3(1.6,-1.6) C7(4.8,-1.6) C8(5.6,-1.6) C9(6.4,-1.6) D1(0,-2.4) D2(0.8,-2.4) D3(1.6,-2.4) D7(4.8,-2.4) D8(5.6,-2.4) D9(6.4,-2.4) E1(0,-3.2) E2(0.8,-3.2) E3(1.6,-3.2) E7(4.8,-3.2) E8(5.6,-3.2) E9(6.4,-3.2) F1(0,-4) F2(0.8,-4) F3(1.6,-4) F7(4.8,-4) F8(5.6,-4) F9(6.4,-4) G1(0,-4.8) G2(0.8,-4.8) G3(1.6,-4.8) G7(4.8,-4.8) G8(5.6,-4.8) G9(6.4,-4.8) H1(0,-5.6) H2(0.8,-5.6) H3(1.6,-5.6) H7(4.8,-5.6) H8(5.6,-5.6) H9(6.4,-5.6) J1(0,-6.4) J2(0.8,-6.4) J3(1.6,-6.4) J7(4.8,-6.4) J8(5.6,-6.4) J9(6.4,-6.4) K1(0,-7.2) K2(0.8,-7.2) K3(1.6,-7.2) K7(4.8,-7.2) K8(5.6,-7.2) K9(6.4,-7.2) L1(0,-8) L2(0.8,-8) L3(1.6,-8) L7(4.8,-8) L8(5.6,-8) L9(6.4,-8) M1(0,-8.8) M2(0.8,-8.8) M3(1.6,-8.8) M7(4.8,-8.8) M8(5.6,-8.8) M9(6.4,-8.8) N1(0,-9.6) N2(0.8,-9.6) N3(1.6,-9.6) N7(4.8,-9.6) N8(5.6,-9.6) N9(6.4,-9.6) P1(0,-10.4) P2(0.8,-10.4) P3(1.6,-10.4) P7(4.8,-10.4) P8(5.6,-10.4) P9(6.4,-10.4) R1(0,-11.2) R2(0.8,-11.2) R3(1.6,-11.2) R7(4.8,-11.2) R8(5.6,-11.2) R9(6.4,-11.2)
TopOverlay:
  lines w0.2: -0.8,-12 -0.8,0.5 -0.3,1 7.2,1 7.2,-12 -0.8,-12

## BGA-361-16X16 [mm]
pads (361):
  round 0.38 smd: A1(-7.2,7.2) A2(-6.4,7.2) A3(-5.6,7.2) A4(-4.8,7.2) A5(-4,7.2) A6(-3.2,7.2) A7(-2.4,7.2) A8(-1.6,7.2) A9(-0.8,7.2) A10(0,7.2) A11(0.8,7.2) A12(1.6,7.2) A13(2.4,7.2) A14(3.2,7.2) A15(4,7.2) A16(4.8,7.2) A17(5.6,7.2) A18(6.4,7.2) A19(7.2,7.2) B1(-7.2,6.4) B2(-6.4,6.4) B3(-5.6,6.4) B4(-4.8,6.4) B5(-4,6.4) B6(-3.2,6.4) B7(-2.4,6.4) B8(-1.6,6.4) B9(-0.8,6.4) B10(0,6.4) B11(0.8,6.4) B12(1.6,6.4) B13(2.4,6.4) B14(3.2,6.4) B15(4,6.4) B16(4.8,6.4) B17(5.6,6.4) B18(6.4,6.4) B19(7.2,6.4) C1(-7.2,5.6) C2(-6.4,5.6) C3(-5.6,5.6) C4(-4.8,5.6) C5(-4,5.6) C6(-3.2,5.6) C7(-2.4,5.6) C8(-1.6,5.6) C9(-0.8,5.6) C10(0,5.6) C11(0.8,5.6) C12(1.6,5.6) C13(2.4,5.6) C14(3.2,5.6) C15(4,5.6) C16(4.8,5.6) C17(5.6,5.6) C18(6.4,5.6) C19(7.2,5.6) D1(-7.2,4.8) D2(-6.4,4.8) D3(-5.6,4.8) D4(-4.8,4.8) D5(-4,4.8) D6(-3.2,4.8) D7(-2.4,4.8) D8(-1.6,4.8) D9(-0.8,4.8) D10(0,4.8) D11(0.8,4.8) D12(1.6,4.8) D13(2.4,4.8) D14(3.2,4.8) D15(4,4.8) D16(4.8,4.8) D17(5.6,4.8) D18(6.4,4.8) D19(7.2,4.8) E1(-7.2,4) E2(-6.4,4) E3(-5.6,4) E4(-4.8,4) E5(-4,4) E6(-3.2,4) E7(-2.4,4) E8(-1.6,4) E9(-0.8,4) E10(0,4) E11(0.8,4) E12(1.6,4) E13(2.4,4) E14(3.2,4) E15(4,4) E16(4.8,4) E17(5.6,4) E18(6.4,4) E19(7.2,4) F1(-7.2,3.2) F2(-6.4,3.2) F3(-5.6,3.2) F4(-4.8,3.2) F5(-4,3.2) F6(-3.2,3.2) F7(-2.4,3.2) F8(-1.6,3.2) F9(-0.8,3.2) F10(0,3.2) F11(0.8,3.2) F12(1.6,3.2) F13(2.4,3.2) F14(3.2,3.2) F15(4,3.2) F16(4.8,3.2) F17(5.6,3.2) F18(6.4,3.2) F19(7.2,3.2) G1(-7.2,2.4) G2(-6.4,2.4) G3(-5.6,2.4) G4(-4.8,2.4) G5(-4,2.4) G6(-3.2,2.4) G7(-2.4,2.4) G8(-1.6,2.4) G9(-0.8,2.4) G10(0,2.4) G11(0.8,2.4) G12(1.6,2.4) G13(2.4,2.4) G14(3.2,2.4) G15(4,2.4) G16(4.8,2.4) G17(5.6,2.4) G18(6.4,2.4) G19(7.2,2.4) H1(-7.2,1.6) H2(-6.4,1.6) H3(-5.6,1.6) H4(-4.8,1.6) H5(-4,1.6) H6(-3.2,1.6) H7(-2.4,1.6) H8(-1.6,1.6) H9(-0.8,1.6) H10(0,1.6) H11(0.8,1.6) H12(1.6,1.6) H13(2.4,1.6) H14(3.2,1.6) H15(4,1.6) H16(4.8,1.6) H17(5.6,1.6) H18(6.4,1.6) H19(7.2,1.6) J1(-7.2,0.8) J2(-6.4,0.8) J3(-5.6,0.8) J4(-4.8,0.8) J5(-4,0.8) J6(-3.2,0.8) J7(-2.4,0.8) J8(-1.6,0.8) J9(-0.8,0.8) J10(0,0.8) J11(0.8,0.8) J12(1.6,0.8) J13(2.4,0.8) J14(3.2,0.8) J15(4,0.8) J16(4.8,0.8) J17(5.6,0.8) J18(6.4,0.8) J19(7.2,0.8) K1(-7.2,0) K2(-6.4,0) K3(-5.6,0) K4(-4.8,0) K5(-4,0) K6(-3.2,0) K7(-2.4,0) K8(-1.6,0) K9(-0.8,0) K10(0,0) K11(0.8,0) K12(1.6,0) K13(2.4,0) K14(3.2,0) K15(4,0) K16(4.8,0) K17(5.6,0) K18(6.4,0) K19(7.2,0) L1(-7.2,-0.8) L2(-6.4,-0.8) L3(-5.6,-0.8) L4(-4.8,-0.8) L5(-4,-0.8) L6(-3.2,-0.8) L7(-2.4,-0.8) L8(-1.6,-0.8) L9(-0.8,-0.8) L10(0,-0.8) L11(0.8,-0.8) L12(1.6,-0.8) L13(2.4,-0.8) L14(3.2,-0.8) L15(4,-0.8) L16(4.8,-0.8) L17(5.6,-0.8) L18(6.4,-0.8) L19(7.2,-0.8) M1(-7.2,-1.6) M2(-6.4,-1.6) M3(-5.6,-1.6) M4(-4.8,-1.6) M5(-4,-1.6) M6(-3.2,-1.6) M7(-2.4,-1.6) M8(-1.6,-1.6) M9(-0.8,-1.6) M10(0,-1.6) M11(0.8,-1.6) M12(1.6,-1.6) M13(2.4,-1.6) M14(3.2,-1.6) M15(4,-1.6) M16(4.8,-1.6) M17(5.6,-1.6) M18(6.4,-1.6) M19(7.2,-1.6) N1(-7.2,-2.4) N2(-6.4,-2.4) N3(-5.6,-2.4) N4(-4.8,-2.4) N5(-4,-2.4) N6(-3.2,-2.4) N7(-2.4,-2.4) N8(-1.6,-2.4) N9(-0.8,-2.4) N10(0,-2.4) N11(0.8,-2.4) N12(1.6,-2.4) N13(2.4,-2.4) N14(3.2,-2.4) N15(4,-2.4) N16(4.8,-2.4) N17(5.6,-2.4) N18(6.4,-2.4) N19(7.2,-2.4) P1(-7.2,-3.2) P2(-6.4,-3.2) P3(-5.6,-3.2) P4(-4.8,-3.2) P5(-4,-3.2) P6(-3.2,-3.2) P7(-2.4,-3.2) P8(-1.6,-3.2) P9(-0.8,-3.2) P10(0,-3.2) P11(0.8,-3.2) P12(1.6,-3.2) P13(2.4,-3.2) P14(3.2,-3.2) P15(4,-3.2) P16(4.8,-3.2) P17(5.6,-3.2) P18(6.4,-3.2) P19(7.2,-3.2) R1(-7.2,-4) R2(-6.4,-4) R3(-5.6,-4) R4(-4.8,-4) R5(-4,-4) R6(-3.2,-4) R7(-2.4,-4) R8(-1.6,-4) R9(-0.8,-4) R10(0,-4) R11(0.8,-4) R12(1.6,-4) R13(2.4,-4) R14(3.2,-4) R15(4,-4) R16(4.8,-4) R17(5.6,-4) R18(6.4,-4) R19(7.2,-4) T1(-7.2,-4.8) T2(-6.4,-4.8) T3(-5.6,-4.8) T4(-4.8,-4.8) T5(-4,-4.8) T6(-3.2,-4.8) T7(-2.4,-4.8) T8(-1.6,-4.8) T9(-0.8,-4.8) T10(0,-4.8) T11(0.8,-4.8) T12(1.6,-4.8) T13(2.4,-4.8) T14(3.2,-4.8) T15(4,-4.8) T16(4.8,-4.8) T17(5.6,-4.8) T18(6.4,-4.8) T19(7.2,-4.8) U1(-7.2,-5.6) U2(-6.4,-5.6) U3(-5.6,-5.6) U4(-4.8,-5.6) U5(-4,-5.6) U6(-3.2,-5.6) U7(-2.4,-5.6) U8(-1.6,-5.6) U9(-0.8,-5.6) U10(0,-5.6) U11(0.8,-5.6) U12(1.6,-5.6) U13(2.4,-5.6) U14(3.2,-5.6) U15(4,-5.6) U16(4.8,-5.6) U17(5.6,-5.6) U18(6.4,-5.6) U19(7.2,-5.6) V1(-7.2,-6.4) V2(-6.4,-6.4) V3(-5.6,-6.4) V4(-4.8,-6.4) V5(-4,-6.4) V6(-3.2,-6.4) V7(-2.4,-6.4) V8(-1.6,-6.4) V9(-0.8,-6.4) V10(0,-6.4) V11(0.8,-6.4) V12(1.6,-6.4) V13(2.4,-6.4) V14(3.2,-6.4) V15(4,-6.4) V16(4.8,-6.4) V17(5.6,-6.4) V18(6.4,-6.4) V19(7.2,-6.4) W1(-7.2,-7.2) W2(-6.4,-7.2) W3(-5.6,-7.2) W4(-4.8,-7.2) W5(-4,-7.2) W6(-3.2,-7.2) W7(-2.4,-7.2) W8(-1.6,-7.2) W9(-0.8,-7.2) W10(0,-7.2) W11(0.8,-7.2) W12(1.6,-7.2) W13(2.4,-7.2) W14(3.2,-7.2) W15(4,-7.2) W16(4.8,-7.2) W17(5.6,-7.2) W18(6.4,-7.2) W19(7.2,-7.2)
TopOverlay:
  lines w0.2: -8,-8 8,-8 8,8 -7.2,8 -8,7.2 -8,-8
Mechanical3:
  lines w0.2: -8.4,0 8.4,0 ; 0,-8.4 0,8.4

## BGA-K9K1G08X0B [mm]
pads (63):
  round 0.38 smd: 0(-1.6,-7.2) 0(-1.6,-6.4) 0(-1.6,0.8) 0(-1.6,1.6) 0(-0.8,-7.2) 0(-0.8,-6.4) 0(-0.8,1.6) 0(4.8,-7.2) 0(4.8,-6.4) 0(4.8,0.8) 0(4.8,1.6) 0(5.6,-7.2) 0(5.6,-6.4) 0(5.6,0.8) 0(5.6,1.6) A1(0,0) A2(0.8,0) A3(1.6,0) A4(2.4,0) A5(3.2,0) A6(4,0) B1(0,-0.8) B2(0.8,-0.8) B3(1.6,-0.8) B4(2.4,-0.8) B5(3.2,-0.8) B6(4,-0.8) C1(0,-1.6) C2(0.8,-1.6) C3(1.6,-1.6) C4(2.4,-1.6) C5(3.2,-1.6) C6(4,-1.6) D1(0,-2.4) D2(0.8,-2.4) D3(1.6,-2.4) D4(2.4,-2.4) D5(3.2,-2.4) D6(4,-2.4) E1(0,-3.2) E2(0.8,-3.2) E3(1.6,-3.2) E4(2.4,-3.2) E5(3.2,-3.2) E6(4,-3.2) F1(0,-4) F2(0.8,-4) F3(1.6,-4) F4(2.4,-4) F5(3.2,-4) F6(4,-4) G1(0,-4.8) G2(0.8,-4.8) G3(1.6,-4.8) G4(2.4,-4.8) G5(3.2,-4.8) G6(4,-4.8) H1(0,-5.6) H2(0.8,-5.6) H3(1.6,-5.6) H4(2.4,-5.6) H5(3.2,-5.6) H6(4,-5.6)
TopOverlay:
  circle w0.2: c-1.3,3 r0.3
  lines w0.2: -2.3,-9.6 6.3,-9.6 6.3,4 2,4 -2.3,4 -2.3,-9.6

## BGA-VFBGA(PXA310) [mm]
pads (400):
  round 0.254 smd: A1(-5.75,5.75) A2(-5.25,5.75) A3(-4.75,5.75) A4(-4.25,5.75) A5(-3.75,5.75) A6(-3.25,5.75) A7(-2.75,5.75) A8(-2.25,5.75) A9(-1.75,5.75) A10(-1.25,5.75) A11(-0.75,5.75) A12(-0.25,5.75) A13(0.25,5.75) A14(0.75,5.75) A15(1.25,5.75) A16(1.75,5.75) A17(2.25,5.75) A18(2.75,5.75) A19(3.25,5.75) A20(3.75,5.75) A21(4.25,5.75) A22(4.75,5.75) A23(5.25,5.75) A24(5.75,5.75) AA1(-5.75,-4.25) AA2(-5.25,-4.25) AA3(-4.75,-4.25) AA22(4.75,-4.25) AA23(5.25,-4.25) AA24(5.75,-4.25) AB1(-5.75,-4.75) AB2(-5.25,-4.75) AB3(-4.75,-4.75) AB4(-4.25,-4.75) AB5(-3.75,-4.75) AB6(-3.25,-4.75) AB7(-2.75,-4.75) AB8(-2.25,-4.75) AB9(-1.75,-4.75) AB10(-1.25,-4.75) AB11(-0.75,-4.75) AB12(-0.25,-4.75) AB13(0.25,-4.75) AB14(0.75,-4.75) AB15(1.25,-4.75) AB16(1.75,-4.75) AB17(2.25,-4.75) AB18(2.75,-4.75) AB19(3.25,-4.75) AB20(3.75,-4.75) AB21(4.25,-4.75) AB22(4.75,-4.75) AB23(5.25,-4.75) AB24(5.75,-4.75) AC1(-5.75,-5.25) AC2(-5.25,-5.25) AC3(-4.75,-5.25) AC4(-4.25,-5.25) AC5(-3.75,-5.25) AC6(-3.25,-5.25) AC7(-2.75,-5.25) AC8(-2.25,-5.25) AC9(-1.75,-5.25) AC10(-1.25,-5.25) AC11(-0.75,-5.25) AC12(-0.25,-5.25) AC13(0.25,-5.25) AC14(0.75,-5.25) AC15(1.25,-5.25) AC16(1.75,-5.25) AC17(2.25,-5.25) AC18(2.75,-5.25) AC19(3.25,-5.25) AC20(3.75,-5.25) AC21(4.25,-5.25) AC22(4.75,-5.25) AC23(5.25,-5.25) AC24(5.75,-5.25) AD1(-5.75,-5.75) AD2(-5.25,-5.75) AD3(-4.75,-5.75) AD4(-4.25,-5.75) AD5(-3.75,-5.75) AD6(-3.25,-5.75) AD7(-2.75,-5.75) AD8(-2.25,-5.75) AD9(-1.75,-5.75) AD10(-1.25,-5.75) AD11(-0.75,-5.75) AD12(-0.25,-5.75) AD13(0.25,-5.75) AD14(0.75,-5.75) AD15(1.25,-5.75) AD16(1.75,-5.75) AD17(2.25,-5.75) AD18(2.75,-5.75) AD19(3.25,-5.75) AD20(3.75,-5.75) AD21(4.25,-5.75) AD22(4.75,-5.75) AD23(5.25,-5.75) AD24(5.75,-5.75) B1(-5.75,5.25) B2(-5.25,5.25) B3(-4.75,5.25) B4(-4.25,5.25) B5(-3.75,5.25) B6(-3.25,5.25) B7(-2.75,5.25) B8(-2.25,5.25) B9(-1.75,5.25) B10(-1.25,5.25) B11(-0.75,5.25) B12(-0.25,5.25) B13(0.25,5.25) B14(0.75,5.25) B15(1.25,5.25) B16(1.75,5.25) B17(2.25,5.25) B18(2.75,5.25) B19(3.25,5.25) B20(3.75,5.25) B21(4.25,5.25) B22(4.75,5.25) B23(5.25,5.25) B24(5.75,5.25) C1(-5.75,4.75) C2(-5.25,4.75) C3(-4.75,4.75) C4(-4.25,4.75) C5(-3.75,4.75) C6(-3.25,4.75) C7(-2.75,4.75) C8(-2.25,4.75) C9(-1.75,4.75) C10(-1.25,4.75) C11(-0.75,4.75) C12(-0.25,4.75) C13(0.25,4.75) C14(0.75,4.75) C15(1.25,4.75) C16(1.75,4.75) C17(2.25,4.75) C18(2.75,4.75) C19(3.25,4.75) C20(3.75,4.75) C21(4.25,4.75) C22(4.75,4.75) C23(5.25,4.75) C24(5.75,4.75) D1(-5.75,4.25) D2(-5.25,4.25) D3(-4.75,4.25) D22(4.75,4.25) D23(5.25,4.25) D24(5.75,4.25) E1(-5.75,3.75) E2(-5.25,3.75) E3(-4.75,3.75) E5(-3.75,3.75) E6(-3.25,3.75) E7(-2.75,3.75) E8(-2.25,3.75) E9(-1.75,3.75) E10(-1.25,3.75) E11(-0.75,3.75) E12(-0.25,3.75) E13(0.25,3.75) E14(0.75,3.75) E15(1.25,3.75) E16(1.75,3.75) E17(2.25,3.75) E18(2.75,3.75) E19(3.25,3.75) E20(3.75,3.75) E22(4.75,3.75) E23(5.25,3.75) E24(5.75,3.75) F1(-5.75,3.25) F2(-5.25,3.25) F3(-4.75,3.25) F5(-3.75,3.25) F6(-3.25,3.25) F7(-2.75,3.25) F8(-2.25,3.25) F9(-1.75,3.25) F10(-1.25,3.25) F11(-0.75,3.25) F12(-0.25,3.25) F13(0.25,3.25) F14(0.75,3.25) F15(1.25,3.25) F16(1.75,3.25) F17(2.25,3.25) F18(2.75,3.25) F19(3.25,3.25) F20(3.75,3.25) F22(4.75,3.25) F23(5.25,3.25) F24(5.75,3.25) G1(-5.75,2.75) G2(-5.25,2.75) G3(-4.75,2.75) G5(-3.75,2.75) G6(-3.25,2.75) G19(3.25,2.75) G20(3.75,2.75) G22(4.75,2.75) G23(5.25,2.75) G24(5.75,2.75) H1(-5.75,2.25) H2(-5.25,2.25) H3(-4.75,2.25) H5(-3.75,2.25) H6(-3.25,2.25) H8(-2.25,2.25) H9(-1.75,2.25) H10(-1.25,2.25) H11(-0.75,2.25) H12(-0.25,2.25) H13(0.25,2.25) H14(0.75,2.25) H15(1.25,2.25) H16(1.75,2.25) H17(2.25,2.25) H19(3.25,2.25) H20(3.75,2.25) H22(4.75,2.25) H23(5.25,2.25) H24(5.75,2.25) J1(-5.75,1.75) J2(-5.25,1.75) J3(-4.75,1.75) J5(-3.75,1.75) J6(-3.25,1.75) J8(-2.25,1.75) J17(2.25,1.75) J19(3.25,1.75) J20(3.75,1.75) J22(4.75,1.75) J23(5.25,1.75) J24(5.75,1.75) K1(-5.75,1.25) K2(-5.25,1.25) K3(-4.75,1.25) K5(-3.75,1.25) K6(-3.25,1.25) K8(-2.25,1.25) K17(2.25,1.25) K19(3.25,1.25) K20(3.75,1.25) K22(4.75,1.25) K23(5.25,1.25) K24(5.75,1.25) L1(-5.75,0.75) L2(-5.25,0.75) L3(-4.75,0.75) L5(-3.75,0.75) L6(-3.25,0.75) L8(-2.25,0.75) L17(2.25,0.75) L19(3.25,0.75) L20(3.75,0.75) L22(4.75,0.75) L23(5.25,0.75) L24(5.75,0.75) M1(-5.75,0.25) M2(-5.25,0.25) M3(-4.75,0.25) M5(-3.75,0.25) M6(-3.25,0.25) M8(-2.25,0.25) M17(2.25,0.25) M19(3.25,0.25) M20(3.75,0.25) M22(4.75,0.25) M23(5.25,0.25) M24(5.75,0.25) N1(-5.75,-0.25) N2(-5.25,-0.25) N3(-4.75,-0.25) N5(-3.75,-0.25) N6(-3.25,-0.25) N8(-2.25,-0.25) N17(2.25,-0.25) N19(3.25,-0.25) N20(3.75,-0.25) N22(4.75,-0.25) N23(5.25,-0.25) N24(5.75,-0.25) P1(-5.75,-0.75) P2(-5.25,-0.75) P3(-4.75,-0.75) P5(-3.75,-0.75) P6(-3.25,-0.75) P8(-2.25,-0.75) P17(2.25,-0.75) P19(3.25,-0.75) P20(3.75,-0.75) P22(4.75,-0.75) P23(5.25,-0.75) P24(5.75,-0.75) R1(-5.75,-1.25) R2(-5.25,-1.25) R3(-4.75,-1.25) R5(-3.75,-1.25) R6(-3.25,-1.25) R8(-2.25,-1.25) R17(2.25,-1.25) R19(3.25,-1.25) R20(3.75,-1.25) R22(4.75,-1.25) R23(5.25,-1.25) R24(5.75,-1.25) T1(-5.75,-1.75) T2(-5.25,-1.75) T3(-4.75,-1.75) T5(-3.75,-1.75) T6(-3.25,-1.75) T8(-2.25,-1.75) T17(2.25,-1.75) T19(3.25,-1.75) T20(3.75,-1.75) T22(4.75,-1.75) T23(5.25,-1.75) T24(5.75,-1.75) U1(-5.75,-2.25) U2(-5.25,-2.25) U3(-4.75,-2.25) U5(-3.75,-2.25) U6(-3.25,-2.25) U8(-2.25,-2.25) U9(-1.75,-2.25) U10(-1.25,-2.25) U11(-0.75,-2.25) U12(-0.25,-2.25) U13(0.25,-2.25) U14(0.75,-2.25) U15(1.25,-2.25) U16(1.75,-2.25) U17(2.25,-2.25) U19(3.25,-2.25) U20(3.75,-2.25) U22(4.75,-2.25) U23(5.25,-2.25) U24(5.75,-2.25) V1(-5.75,-2.75) V2(-5.25,-2.75) V3(-4.75,-2.75) V5(-3.75,-2.75) V6(-3.25,-2.75) V19(3.25,-2.75) V20(3.75,-2.75) V22(4.75,-2.75) V23(5.25,-2.75) V24(5.75,-2.75) W1(-5.75,-3.25) W2(-5.25,-3.25) W3(-4.75,-3.25) W5(-3.75,-3.25) W6(-3.25,-3.25) W7(-2.75,-3.25) W8(-2.25,-3.25) W9(-1.75,-3.25) W10(-1.25,-3.25) W11(-0.75,-3.25) W12(-0.25,-3.25) W13(0.25,-3.25) W14(0.75,-3.25) W15(1.25,-3.25) W16(1.75,-3.25) W17(2.25,-3.25) W18(2.75,-3.25) W19(3.25,-3.25) W20(3.75,-3.25) W22(4.75,-3.25) W23(5.25,-3.25) W24(5.75,-3.25) Y1(-5.75,-3.75) Y2(-5.25,-3.75) Y3(-4.75,-3.75) Y5(-3.75,-3.75) Y6(-3.25,-3.75) Y7(-2.75,-3.75) Y8(-2.25,-3.75) Y9(-1.75,-3.75) Y10(-1.25,-3.75) Y11(-0.75,-3.75) Y12(-0.25,-3.75) Y13(0.25,-3.75) Y14(0.75,-3.75) Y15(1.25,-3.75) Y16(1.75,-3.75) Y17(2.25,-3.75) Y18(2.75,-3.75) Y19(3.25,-3.75) Y20(3.75,-3.75) Y22(4.75,-3.75) Y23(5.25,-3.75) Y24(5.75,-3.75)
TopOverlay:
  lines w0.2: -6.5,-6.5 6.5,-6.5 6.5,6.5 -5.7,6.5 -6.5,5.7 -6.5,-6.5

## BNC [mm]
pads (4):
  round 3 hole 2.1: 0(-5,-5) 0(5,-5)
  oct 1.6x1.6 hole 1: 1(0,0)
  round 1.6 hole 1: 2(2.3,0)
TopOverlay:
  lines w0.2: -7.4,-12.5 7.4,-12.5 ; -7.4,-12.5 -6,-12.5 -6,-33.4 6,-33.4 6,-12.5 7.4,-12.5 ; -7.4,-12.5 -7.4,1.1 4,1.1 7.4,1.1 7.4,-12.5

## BRIDGE [mm]
pads (4):
  oct 1.7x1.7 hole 1.1: 1(0,0)
  round 1.7 hole 1.1: 2(0,-5) 3(5,-5) 4(5,0)
TopOverlay:
  circle w0.2: c2.5,-2.5 r4.7
  text "+" at -1.9,0.8 h1.5

## BUZ-SF-09B23P [mm]
pads (2):
  oct 1.8x1.8 hole 0.8: 1(0,0)
  round 1.8 hole 0.8: 2(4,0)
TopOverlay:
  circle w0.2: c2,0 r4.5
  text "+" at -2.2,-0.7 h1.5

## BUZ-SF-12B23P [mm]
pads (2):
  oct 1.8x1.8 hole 0.762: 1(0,0)
  round 1.8 hole 0.762: 2(7.6,0)
TopOverlay:
  circle w0.254: c3.8,0 r6
  text "+" at -0.5,0.9 h1.5